# EAGLE library part ALPS_RK09L12X (library audio-pots)
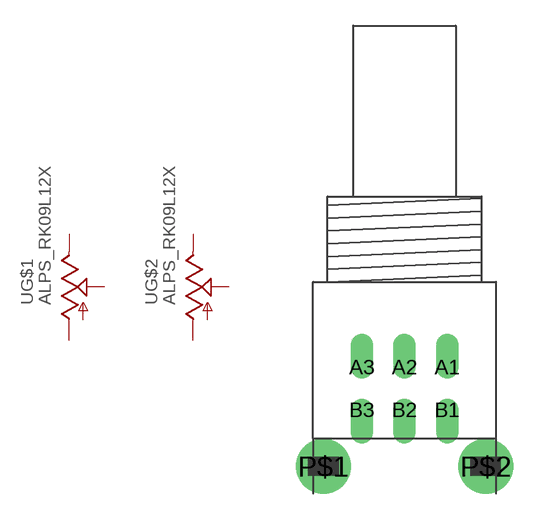
[diagram p3: symbol with the pads of RK09L12; footprint RK09L12]

Designator prefix -; gates G$1=POT G$2=POT

## ALPS_RK09L12X  [RK09L12]
A1  G$1:1  pas
A2  G$1:2  pas
A3  G$1:3  pas
B1  G$2:1  pas
B2  G$2:2  pas
B3  G$2:3  pas

## Footprint RK09L12 (pad centres in mm)
drill 0.8 offset: A1 2.5,2.5; A2 0,2.5; A3 -2.5,2.5; B1 2.5,0; B2 0,0; B3 -2.5,0
drill 2.2 pad 3: P$1 -4.75,-3.3; P$2 4.75,-3.3